# Altium footprint library S6LDC115-2003-1-1.PcbLib: 17 footprints (part 1 of 2)
Each footprint in its own frame and in the unit in brackets; x right, y up, seen from the top. Pads: shape width x height; smd on the part's side, far side on the other; paste and mask are expansions set on the pad; w line width, h text height; cw(c..) or ccw(c..) is an arc to the next point about the centre after c.
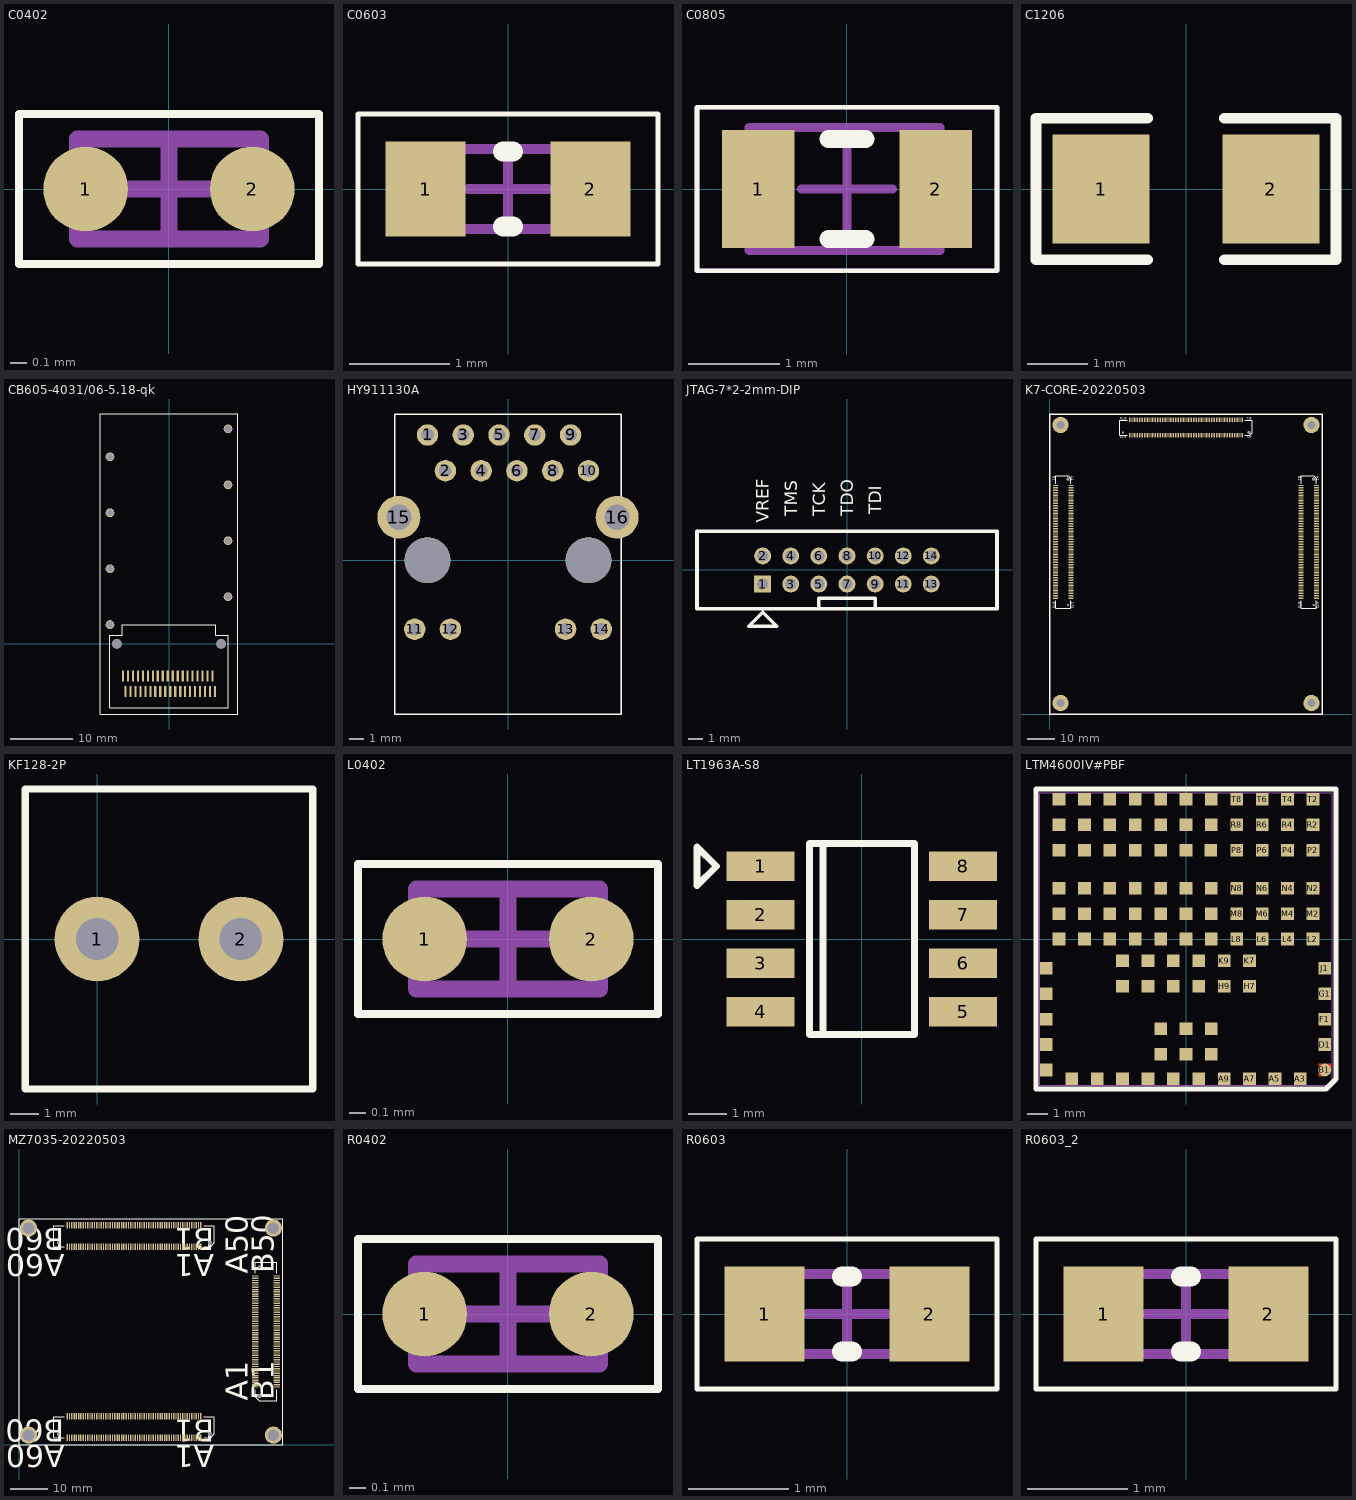
[diagram p0: the footprints below, top view; thin cyan lines are the x and y axes]

## C0402 [mil]
height 11.81
pads (2):
  round 20 smd: 1(-19.68,0) 2(19.68,0)
Top Overlay:
  lines w1.97: -35.43,-17.72 35.43,-17.72 35.43,17.72 -35.43,17.72 -35.43,-17.72
Mechanical 13:
  lines w3.94: -21.65,-11.81 -21.65,11.81 21.65,11.81 21.65,-11.81 -21.65,-11.81
Mechanical 15:
  lines w1.97: -35.43,-17.72 35.43,-17.72 35.43,17.72 -35.43,17.72 -35.43,-17.72
  lines w3.94: -9.84,0 9.84,0 ; 0,-9.84 0,9.84
3D body "C 0402.STEP": height 20.68, standoff 0.21, extent -19.68,-10.23 19.69,10.24

## C0603 [mm]
height 1.2
pads (2):
  rect 0.8x0.95 smd: 1(-0.825,0) 2(0.825,0)
Top Overlay:
  lines w0.05: -1.5,-0.75 -1.5,0.75 1.5,0.75 1.5,-0.75 -1.5,-0.75
  lines w0.2: -0.05,-0.375 0.05,-0.375 ; -0.05,0.375 0.05,0.375
Mechanical 13:
  lines w0.1: -0.8,-0.4 -0.8,0.4 0.8,0.4 0.8,-0.4 -0.8,-0.4
Mechanical 15:
  lines w0.1: -0.4,0 0.4,0 ; 0,-0.4 0,0.4
3D body "C 0603.STEP": height 0.81, standoff -0.01, extent -0.8,-0.41 0.8,0.41

## C0805 [mm]
height 0.5
pads (2):
  rect 0.8x1.3 smd: 1(-0.975,0) 2(0.975,0)
Top Overlay:
  lines w0.05: -1.65,-0.9 1.65,-0.9 1.65,0.9 -1.65,0.9 -1.65,-0.9
  lines w0.2: -0.2,-0.55 0.2,-0.55 ; -0.2,0.55 0.2,0.55
Mechanical 13:
  lines w0.1: -1.075,-0.675 -1.075,0.675 1.025,0.675 1.025,-0.675 -1.075,-0.675
Mechanical 15:
  lines w0.05: -1.65,-0.9 1.65,-0.9 1.65,0.9 -1.65,0.9 -1.65,-0.9
  lines w0.1: -0.5,0 0.5,0 ; 0,-0.5 0,0.5
3D body "C 0805.STEP": height 0.51, standoff -0.01, extent -1,-0.61 1,0.61

## C1206 [mm]
pads (2):
  rect 1.6x1.8 smd: 1(-1.4,0) 2(1.4,0)
Top Overlay:
  lines w0.178: -0.635,-1.168 -2.476,-1.168 -2.476,1.168 -0.635,1.168 ; 0.635,-1.168 2.476,-1.168 2.476,1.168 0.635,1.168
3D body "C 1206.STEP": height 1.21, standoff -0.01, extent -1.6,-0.81 1.6,0.81

## CB605-4031/06-5.18-qk [mm]
pads (48):
  rect 0.35x1.8 smd: 1(7,-5.18) 2(6.2,-5.18) 3(5.4,-5.18) 4(4.6,-5.18) 5(3.8,-5.18) 6(3,-5.18) 7(2.2,-5.18) 8(1.4,-5.18) 9(0.6,-5.18) 10(-0.2,-5.18) 11(-1,-5.18) 12(-1.8,-5.18) 13(-2.6,-5.18) 14(-3.4,-5.18) 15(-4.2,-5.18) 16(-5,-5.18) 17(-5.8,-5.18) 18(-6.6,-5.18) 19(-7.4,-5.18) 20(-7,-7.69) 21(-6.2,-7.69) 22(-5.4,-7.69) 23(-4.6,-7.69) 24(-3.8,-7.69) 25(-3,-7.69) 26(-2.2,-7.69) 27(-1.4,-7.69) 28(-0.6,-7.69) 29(0.2,-7.69) 30(1,-7.69) 31(1.8,-7.69) 32(2.6,-7.69) 33(3.4,-7.69) 34(4.2,-7.69) 35(5,-7.69) 36(5.8,-7.69) 37(6.6,-7.69) 38(7.4,-7.69)
  round 1.4 hole 1.1: 39(-9.5,3.1) 39(-9.5,12.1) 39(-9.5,21.1) 39(-9.5,30.1) 39(9.5,7.6) 39(9.5,16.6) 39(9.5,25.6) 39(9.5,34.6)
  round 1.55 hole 1.55: ""(-8.4,0) ""(8.4,0)
Top Overlay:
  lines w0.1: -11.075,-11.3 11.075,-11.3 11.075,37 -11.075,37 -11.075,-11.3 ; -9.5,-10.3 9.5,-10.3 9.5,1.36 7.51,1.36 7.51,3.05 -7.51,3.05 -7.51,1.36 -9.5,1.36 -9.5,-10.3

## HY911130A [mil]
pads (18):
  round 60 hole 35: 1(-225,350) 2(-175,250) 3(-125,350) 4(-75,250) 5(-25,350) 6(25,250) 7(75,350) 8(125,250) 9(175,350) 10(225,250) 11(-260.83,-192.91) 12(-160.83,-192.91) 13(160.83,-192.91) 14(260.83,-192.91)
  round 120 hole 70: 15(-304.92,120.08) 16(304.92,120.08)
  round 128 hole 128: " "(-225,0) " "(225,0)
Top Overlay:
  lines w3.94: -316.93,-429.92 316.93,-429.92 316.93,408.66 -316.93,408.66 -316.93,-429.92
Mechanical 6:
  text "9" at 175,324.9 h30
  text "8" at 125,224.9 h30
  text "6" at 25,224.9 h30
  text "5" at -25,324.9 h30
  text "7" at 75,324.9 h30
  text "4" at -75,224.9 h30
  text "3" at -125,324.9 h30
  text "2" at -175,224.9 h30
  text "16" at 304.92,82.38 h30
  text "15" at -304.92,82.38 h30
  text "1" at -225,324.9 h30
Mechanical 7:
  lines w1: -316.93,-429.92 316.93,-429.92 316.93,408.66 -316.93,408.66 -316.93,-429.92

## JTAG-7*2-2mm-DIP [mm]
pads (14):
  rect 1.2x1.2 hole 0.8: 1(-6,-1)
  round 1.2 hole 0.8: 2(-6,1) 3(-4,-1) 4(-4,1) 5(-2,-1) 6(-2,1) 7(0,-1) 8(0,1) 9(2,-1) 10(2,1) 11(4,-1) 12(4,1) 13(6,-1) 14(6,1)
Top Overlay:
  lines w0.254: -2,-2.75 -2,-2 2,-2 2,-2.75 ; -10.67,-2.75 10.67,-2.75 10.67,2.75 -10.67,2.75 -10.67,-2.75 ; -7,-4 -6,-3 -5,-4 -7,-4
  text "TDI" at 2.444,3.963 h0.89
  text "TDO" at 0.444,3.815 h0.89
  text "TCK" at -1.556,3.815 h0.89
  text "TMS" at -3.556,3.815 h0.89
  text "VREF" at -5.556,3.371 h0.89

## K7-CORE-20220503 [mm]
pads (430):
  rect 0.35x1.7 smd mask+0.15: AS1(70.7,102.15) AS2(70.1,102.15) AS3(69.5,102.15) AS4(68.9,102.15) AS5(68.3,102.15) AS6(67.7,102.15) AS7(67.1,102.15) AS8(66.5,102.15) AS9(65.9,102.15) AS10(65.3,102.15) AS11(64.7,102.15) AS12(64.1,102.15) AS13(63.5,102.15) AS14(62.9,102.15) AS15(62.3,102.15) AS16(61.7,102.15) AS17(61.1,102.15) AS18(60.5,102.15) AS19(59.9,102.15) AS20(59.3,102.15) AS21(58.7,102.15) AS22(58.1,102.15) AS23(57.5,102.15) AS24(56.9,102.15) AS25(56.3,102.15) AS26(55.7,102.15) AS27(55.1,102.15) AS28(54.5,102.15) AS29(53.9,102.15) AS30(53.3,102.15) AS31(52.7,102.15) AS32(52.1,102.15) AS33(51.5,102.15) AS34(50.9,102.15) AS35(50.3,102.15) AS36(49.7,102.15) AS37(49.1,102.15) AS38(48.5,102.15) AS39(47.9,102.15) AS40(47.3,102.15) AS41(46.7,102.15) AS42(46.1,102.15) AS43(45.5,102.15) AS44(44.9,102.15) AS45(44.3,102.15) AS46(43.7,102.15) AS47(43.1,102.15) AS48(42.5,102.15) AS49(41.9,102.15) AS50(41.3,102.15) AS51(40.7,102.15) AS52(40.1,102.15) AS53(39.5,102.15) AS54(38.9,102.15) AS55(38.3,102.15) AS56(37.7,102.15) AS57(37.1,102.15) AS58(36.5,102.15) AS59(35.9,102.15) AS60(35.3,102.15) AS61(34.7,102.15) AS62(34.1,102.15) AS63(33.5,102.15) AS64(32.9,102.15) AS65(32.3,102.15) AS66(31.7,102.15) AS67(31.1,102.15) AS68(30.5,102.15) AS69(29.9,102.15) AS70(29.3,102.15) BS1(70.7,107.85) BS2(70.1,107.85) BS3(69.5,107.85) BS4(68.9,107.85) BS5(68.3,107.85) BS6(67.7,107.85) BS7(67.1,107.85) BS8(66.5,107.85) BS9(65.9,107.85) BS10(65.3,107.85) BS11(64.7,107.85) BS12(64.1,107.85) BS13(63.5,107.85) BS14(62.9,107.85) BS15(62.3,107.85) BS16(61.7,107.85) BS17(61.1,107.85) BS18(60.5,107.85) BS19(59.9,107.85) BS20(59.3,107.85) BS21(58.7,107.85) BS22(58.1,107.85) BS23(57.5,107.85) BS24(56.9,107.85) BS25(56.3,107.85) BS26(55.7,107.85) BS27(55.1,107.85) BS28(54.5,107.85) BS29(53.9,107.85) BS30(53.3,107.85) BS31(52.7,107.85) BS32(52.1,107.85) BS33(51.5,107.85) BS34(50.9,107.85) BS35(50.3,107.85) BS36(49.7,107.85) BS37(49.1,107.85) BS38(48.5,107.85) BS39(47.9,107.85) BS40(47.3,107.85) BS41(46.7,107.85) BS42(46.1,107.85) BS43(45.5,107.85) BS44(44.9,107.85) BS45(44.3,107.85) BS46(43.7,107.85) BS47(43.1,107.85) BS48(42.5,107.85) BS49(41.9,107.85) BS50(41.3,107.85) BS51(40.7,107.85) BS52(40.1,107.85) BS53(39.5,107.85) BS54(38.9,107.85) BS55(38.3,107.85) BS56(37.7,107.85) BS57(37.1,107.85) BS58(36.5,107.85) BS59(35.9,107.85) BS60(35.3,107.85) BS61(34.7,107.85) BS62(34.1,107.85) BS63(33.5,107.85) BS64(32.9,107.85) BS65(32.3,107.85) BS66(31.7,107.85) BS67(31.1,107.85) BS68(30.5,107.85) BS69(29.9,107.85) BS70(29.3,107.85)
  rect 1.7x0.35 smd mask+0.15: AY1(97.85,83.7) AY2(97.85,83.1) AY3(97.85,82.5) AY4(97.85,81.9) AY5(97.85,81.3) AY6(97.85,80.7) AY7(97.85,80.1) AY8(97.85,79.5) AY9(97.85,78.9) AY10(97.85,78.3) AY11(97.85,77.7) AY12(97.85,77.1) AY13(97.85,76.5) AY14(97.85,75.9) AY15(97.85,75.3) AY16(97.85,74.7) AY17(97.85,74.1) AY18(97.85,73.5) AY19(97.85,72.9) AY20(97.85,72.3) AY21(97.85,71.7) AY22(97.85,71.1) AY23(97.85,70.5) AY24(97.85,69.9) AY25(97.85,69.3) AY26(97.85,68.7) AY27(97.85,68.1) AY28(97.85,67.5) AY29(97.85,66.9) AY30(97.85,66.3) AY31(97.85,65.7) AY32(97.85,65.1) AY33(97.85,64.5) AY34(97.85,63.9) AY35(97.85,63.3) AY36(97.85,62.7) AY37(97.85,62.1) AY38(97.85,61.5) AY39(97.85,60.9) AY40(97.85,60.3) AY41(97.85,59.7) AY42(97.85,59.1) AY43(97.85,58.5) AY44(97.85,57.9) AY45(97.85,57.3) AY46(97.85,56.7) AY47(97.85,56.1) AY48(97.85,55.5) AY49(97.85,54.9) AY50(97.85,54.3) AY51(97.85,53.7) AY52(97.85,53.1) AY53(97.85,52.5) AY54(97.85,51.9) AY55(97.85,51.3) AY56(97.85,50.7) AY57(97.85,50.1) AY58(97.85,49.5) AY59(97.85,48.9) AY60(97.85,48.3) AY61(97.85,47.7) AY62(97.85,47.1) AY63(97.85,46.5) AY64(97.85,45.9) AY65(97.85,45.3) AY66(97.85,44.7) AY67(97.85,44.1) AY68(97.85,43.5) AY69(97.85,42.9) AY70(97.85,42.3) AZ1(7.85,83.7) AZ2(7.85,83.1) AZ3(7.85,82.5) AZ4(7.85,81.9) AZ5(7.85,81.3) AZ6(7.85,80.7) AZ7(7.85,80.1) AZ8(7.85,79.5) AZ9(7.85,78.9) AZ10(7.85,78.3) AZ11(7.85,77.7) AZ12(7.85,77.1) AZ13(7.85,76.5) AZ14(7.85,75.9) AZ15(7.85,75.3) AZ16(7.85,74.7) AZ17(7.85,74.1) AZ18(7.85,73.5) AZ19(7.85,72.9) AZ20(7.85,72.3) AZ21(7.85,71.7) AZ22(7.85,71.1) AZ23(7.85,70.5) AZ24(7.85,69.9) AZ25(7.85,69.3) AZ26(7.85,68.7) AZ27(7.85,68.1) AZ28(7.85,67.5) AZ29(7.85,66.9) AZ30(7.85,66.3) AZ31(7.85,65.7) AZ32(7.85,65.1) AZ33(7.85,64.5) AZ34(7.85,63.9) AZ35(7.85,63.3) AZ36(7.85,62.7) AZ37(7.85,62.1) AZ38(7.85,61.5) AZ39(7.85,60.9) AZ40(7.85,60.3) AZ41(7.85,59.7) AZ42(7.85,59.1) AZ43(7.85,58.5) AZ44(7.85,57.9) AZ45(7.85,57.3) AZ46(7.85,56.7) AZ47(7.85,56.1) AZ48(7.85,55.5) AZ49(7.85,54.9) AZ50(7.85,54.3) AZ51(7.85,53.7) AZ52(7.85,53.1) AZ53(7.85,52.5) AZ54(7.85,51.9) AZ55(7.85,51.3) AZ56(7.85,50.7) AZ57(7.85,50.1) AZ58(7.85,49.5) AZ59(7.85,48.9) AZ60(7.85,48.3) AZ61(7.85,47.7) AZ62(7.85,47.1) AZ63(7.85,46.5) AZ64(7.85,45.9) AZ65(7.85,45.3) AZ66(7.85,44.7) AZ67(7.85,44.1) AZ68(7.85,43.5) AZ69(7.85,42.9) AZ70(7.85,42.3) BY1(92.15,83.7) BY2(92.15,83.1) BY3(92.15,82.5) BY4(92.15,81.9) BY5(92.15,81.3) BY6(92.15,80.7) BY7(92.15,80.1) BY8(92.15,79.5) BY9(92.15,78.9) BY10(92.15,78.3) BY11(92.15,77.7) BY12(92.15,77.1) BY13(92.15,76.5) BY14(92.15,75.9) BY15(92.15,75.3) BY16(92.15,74.7) BY17(92.15,74.1) BY18(92.15,73.5) BY19(92.15,72.9) BY20(92.15,72.3) BY21(92.15,71.7) BY22(92.15,71.1) BY23(92.15,70.5) BY24(92.15,69.9) BY25(92.15,69.3) BY26(92.15,68.7) BY27(92.15,68.1) BY28(92.15,67.5) BY29(92.15,66.9) BY30(92.15,66.3) BY31(92.15,65.7) BY32(92.15,65.1) BY33(92.15,64.5) BY34(92.15,63.9) BY35(92.15,63.3) BY36(92.15,62.7) BY37(92.15,62.1) BY38(92.15,61.5) BY39(92.15,60.9) BY40(92.15,60.3) BY41(92.15,59.7) BY42(92.15,59.1) BY43(92.15,58.5) BY44(92.15,57.9) BY45(92.15,57.3) BY46(92.15,56.7) BY47(92.15,56.1) BY48(92.15,55.5) BY49(92.15,54.9) BY50(92.15,54.3) BY51(92.15,53.7) BY52(92.15,53.1) BY53(92.15,52.5) BY54(92.15,51.9) BY55(92.15,51.3) BY56(92.15,50.7) BY57(92.15,50.1) BY58(92.15,49.5) BY59(92.15,48.9) BY60(92.15,48.3) BY61(92.15,47.7) BY62(92.15,47.1) BY63(92.15,46.5) BY64(92.15,45.9) BY65(92.15,45.3) BY66(92.15,44.7) BY67(92.15,44.1) BY68(92.15,43.5) BY69(92.15,42.9) BY70(92.15,42.3) BZ1(2.15,83.7) BZ2(2.15,83.1) BZ3(2.15,82.5) BZ4(2.15,81.9) BZ5(2.15,81.3) BZ6(2.15,80.7) BZ7(2.15,80.1) BZ8(2.15,79.5) BZ9(2.15,78.9) BZ10(2.15,78.3) BZ11(2.15,77.7) BZ12(2.15,77.1) BZ13(2.15,76.5) BZ14(2.15,75.9) BZ15(2.15,75.3) BZ16(2.15,74.7) BZ17(2.15,74.1) BZ18(2.15,73.5) BZ19(2.15,72.9) BZ20(2.15,72.3) BZ21(2.15,71.7) BZ22(2.15,71.1) BZ23(2.15,70.5) BZ24(2.15,69.9) BZ25(2.15,69.3) BZ26(2.15,68.7) BZ27(2.15,68.1) BZ28(2.15,67.5) BZ29(2.15,66.9) BZ30(2.15,66.3) BZ31(2.15,65.7) BZ32(2.15,65.1) BZ33(2.15,64.5) BZ34(2.15,63.9) BZ35(2.15,63.3) BZ36(2.15,62.7) BZ37(2.15,62.1) BZ38(2.15,61.5) BZ39(2.15,60.9) BZ40(2.15,60.3) BZ41(2.15,59.7) BZ42(2.15,59.1) BZ43(2.15,58.5) BZ44(2.15,57.9) BZ45(2.15,57.3) BZ46(2.15,56.7) BZ47(2.15,56.1) BZ48(2.15,55.5) BZ49(2.15,54.9) BZ50(2.15,54.3) BZ51(2.15,53.7) BZ52(2.15,53.1) BZ53(2.15,52.5) BZ54(2.15,51.9) BZ55(2.15,51.3) BZ56(2.15,50.7) BZ57(2.15,50.1) BZ58(2.15,49.5) BZ59(2.15,48.9) BZ60(2.15,48.3) BZ61(2.15,47.7) BZ62(2.15,47.1) BZ63(2.15,46.5) BZ64(2.15,45.9) BZ65(2.15,45.3) BZ66(2.15,44.7) BZ67(2.15,44.1) BZ68(2.15,43.5) BZ69(2.15,42.9) BZ70(2.15,42.3)
  round 6 hole 3: ""(4,4) ""(4,106) ""(96,4) ""(96,106)
  round 0.7 hole 0.7: ""(6.8,39.9) ""(26.9,103.2) ""(96.8,39.9)
  round 1.1 hole 1.1: ""(6.8,86.1) ""(73.1,103.2) ""(96.8,86.1)
Top Overlay:
  lines w0.254: 2.2,41.5 2.2,38.7 7.8,38.7 7.8,41.5 ; 2.2,84.5 2.2,87.3 6.9,87.3 7.8,86.4 7.8,84.5 ; 28.5,102.2 25.7,102.2 25.7,107.8 28.5,107.8 ; 71.5,102.2 73.4,102.2 74.3,103.1 74.3,107.8 71.5,107.8 ; 92.2,41.5 92.2,38.7 97.8,38.7 97.8,41.5 ; 92.2,84.5 92.2,87.3 96.9,87.3 97.8,86.4 97.8,84.5
  lines w0.5: 0,0 0,110 100,110 100,0 0,0
  text "A1" at 7.952,87.148 h0.89
  text "B1" at 1.159,87.148 h0.89
  text "B70" at 1.159,41.222 h0.89
  text "A70" at 7.952,41.222 h0.89
  text "A1" at 97.952,87.148 h0.89
  text "B1" at 91.159,87.148 h0.89
  text "B70" at 91.159,41.222 h0.89
  text "A70" at 97.952,41.222 h0.89
  text "A1" at 74.148,102.048 h0.89
  text "B1" at 74.148,108.841 h0.89
  text "B70" at 28.222,108.841 h0.89
  text "A70" at 28.222,102.048 h0.89

## KF128-2P [mm]
pads (2):
  round 3 hole 1.5: 1(0,0) 2(5.08,0)
Top Overlay:
  lines w0.254: -2.54,-5.3 -2.54,0 -2.54,5.3 7.62,5.3 7.62,-5.3 -2.54,-5.3

## L0402 [mil]
height 11.81
pads (2):
  round 20 smd: 1(-19.68,0) 2(19.68,0)
Top Overlay:
  lines w1.97: -35.43,-17.72 -35.43,17.72 35.43,17.72 35.43,-17.72 -35.43,-17.72
Mechanical 13:
  lines w3.94: -21.65,-11.81 21.65,-11.81 21.65,11.81 -21.65,11.81 -21.65,-11.81
Mechanical 15:
  lines w1.97: -35.43,-17.72 -35.43,17.72 35.43,17.72 35.43,-17.72 -35.43,-17.72
  lines w3.94: -9.84,0 9.84,0 ; 0,-9.84 0,9.84
3D body "0402.STEP": height 19.68, standoff -0.11, extent -19.69,-9.84 19.69,9.84

## LT1963A-S8 [mil]
pads (8):
  rect 70x30 smd: 1(-104.33,75) 2(-104.33,25) 3(-104.33,-25) 4(-104.33,-75) 5(104.33,-75) 6(104.33,-25) 7(104.33,25) 8(104.33,75)
Top Overlay:
  lines w7: -40,-98.43 -40,98.43 ; -170,55 -150,75 -170,95 -170,55 ; -54.02,-98.43 -54.02,98.43 54.2,98.43 54.2,-98.43 -54.02,-98.43

## LTM4600IV#PBF [mm]
pads (104):
  rect 0.635x0.635 smd: A3(5.716,-6.989) A5(4.446,-6.989) A7(3.176,-6.989) A9(1.906,-6.989) A11(0.636,-6.989) A13(-0.634,-6.989) A15(-1.904,-6.989) A17(-3.174,-6.989) A19(-4.444,-6.989) A21(-5.714,-6.989) B23(-6.987,-6.548) C10(1.27,-5.765) C12(0,-5.765) C14(-1.27,-5.765) D1(6.942,-5.278) D23(-6.987,-5.278) E10(1.27,-4.495) E12(0,-4.495) E14(-1.27,-4.495) F1(6.942,-4.008) F23(-6.987,-4.008) G1(6.942,-2.738) G23(-6.987,-2.738) H7(3.176,-2.36) H9(1.906,-2.36) H11(0.636,-2.36) H13(-0.634,-2.36) H15(-1.904,-2.36) H17(-3.174,-2.36) J1(6.942,-1.468) J23(-6.987,-1.468) K7(3.176,-1.09) K9(1.906,-1.09) K11(0.636,-1.09) K13(-0.634,-1.09) K15(-1.904,-1.09) K17(-3.174,-1.09) L2(6.35,0) L4(5.08,0) L6(3.81,0) L8(2.54,0) L10(1.27,0) L12(0,0) L14(-1.27,0) L16(-2.54,0) L18(-3.81,0) L20(-5.08,0) L22(-6.35,0) M2(6.35,1.27) M4(5.08,1.27) M6(3.81,1.27) M8(2.54,1.27) M10(1.27,1.27) M12(0,1.27) M14(-1.27,1.27) M16(-2.54,1.27) M18(-3.81,1.27) M20(-5.08,1.27) M22(-6.35,1.27) N2(6.35,2.54) N4(5.08,2.54) N6(3.81,2.54) N8(2.54,2.54) N10(1.27,2.54) N12(0,2.54) N14(-1.27,2.54) N16(-2.54,2.54) N18(-3.81,2.54) N20(-5.08,2.54) N22(-6.35,2.54) P2(6.35,4.445) P4(5.08,4.445) P6(3.81,4.445) P8(2.54,4.445) P10(1.24,4.445) P12(0,4.445) P14(-1.27,4.445) P16(-2.54,4.445) P18(-3.81,4.445) P20(-5.08,4.445) P22(-6.35,4.445) R2(6.35,5.715) R4(5.08,5.715) R6(3.81,5.715) R8(2.54,5.715) R10(1.27,5.715) R12(0,5.715) R14(-1.27,5.715) R16(-2.54,5.715) R18(-3.81,5.715) R20(-5.08,5.715) R22(-6.35,5.715) T2(6.35,6.985) T4(5.08,6.985) T6(3.81,6.985) T8(2.54,6.985) T10(1.27,6.985) T12(0,6.985) T14(-1.27,6.985) T16(-2.54,6.985) T18(-3.81,6.985) T20(-5.08,6.985) T22(-6.35,6.985)
  round 0.635 smd: B1(6.942,-6.548)
Top Layer:
  region: 6.625,-6.23 7.26,-6.23 7.26,-6.615 7.01,-6.865 6.625,-6.865
Top Overlay:
  lines w0.254: -7.5,-7.5 7,-7.5 7.5,-7 7.5,7.5 -7.5,7.5 -7.5,-7.5
Mechanical 16:
  lines w0.005: -7.31,-7.31 7.31,-7.31 7.31,7.31 -7.31,7.31 -7.31,-7.31

## MZ7035-20220503 [mm]
pads (350):
  rect 1.7x0.35 smd: AS1(62.633,15.329) AS2(62.633,15.929) AS3(62.633,16.529) AS4(62.633,17.129) AS5(62.633,17.729) AS6(62.633,18.329) AS7(62.633,18.929) AS8(62.633,19.529) AS9(62.633,20.129) AS10(62.633,20.729) AS11(62.633,21.329) AS12(62.633,21.929) AS13(62.633,22.529) AS14(62.633,23.129) AS15(62.633,23.729) AS16(62.633,24.329) AS17(62.633,24.929) AS18(62.633,25.529) AS19(62.633,26.129) AS20(62.633,26.729) AS21(62.633,27.329) AS22(62.633,27.929) AS23(62.633,28.529) AS24(62.633,29.129) AS25(62.633,29.729) AS26(62.633,30.329) AS27(62.633,30.929) AS28(62.633,31.529) AS29(62.633,32.129) AS30(62.633,32.729) AS31(62.633,33.329) AS32(62.633,33.929) AS33(62.633,34.529) AS34(62.633,35.129) AS35(62.633,35.729) AS36(62.633,36.329) AS37(62.633,36.929) AS38(62.633,37.529) AS39(62.633,38.129) AS40(62.633,38.729) AS41(62.633,39.329) AS42(62.633,39.929) AS43(62.633,40.529) AS44(62.633,41.129) AS45(62.633,41.729) AS46(62.633,42.329) AS47(62.633,42.929) AS48(62.633,43.529) AS49(62.633,44.129) AS50(62.633,44.729) BS1(68.333,15.329) BS2(68.333,15.929) BS3(68.333,16.529) BS4(68.333,17.129) BS5(68.333,17.729) BS6(68.333,18.329) BS7(68.333,18.929) BS8(68.333,19.529) BS9(68.333,20.129) BS10(68.333,20.729) BS11(68.333,21.329) BS12(68.333,21.929) BS13(68.333,22.529) BS14(68.333,23.129) BS15(68.333,23.729) BS16(68.333,24.329) BS17(68.333,24.929) BS18(68.333,25.529) BS19(68.333,26.129) BS20(68.333,26.729) BS21(68.333,27.329) BS22(68.333,27.929) BS23(68.333,28.529) BS24(68.333,29.129) BS25(68.333,29.729) BS26(68.333,30.329) BS27(68.333,30.929) BS28(68.333,31.529) BS29(68.333,32.129) BS30(68.333,32.729) BS31(68.333,33.329) BS32(68.333,33.929) BS33(68.333,34.529) BS34(68.333,35.129) BS35(68.333,35.729) BS36(68.333,36.329) BS37(68.333,36.929) BS38(68.333,37.529) BS39(68.333,38.129) BS40(68.333,38.729) BS41(68.333,39.329) BS42(68.333,39.929) BS43(68.333,40.529) BS44(68.333,41.129) BS45(68.333,41.729) BS46(68.333,42.329) BS47(68.333,42.929) BS48(68.333,43.529) BS49(68.333,44.129) BS50(68.333,44.729)
  rect 0.35x1.7 smd: AY1(48.209,1.806) AY2(47.609,1.806) AY3(47.009,1.806) AY4(46.409,1.806) AY5(45.809,1.806) AY6(45.209,1.806) AY7(44.609,1.806) AY8(44.009,1.806) AY9(43.409,1.806) AY10(42.809,1.806) AY11(42.209,1.806) AY12(41.609,1.806) AY13(41.009,1.806) AY14(40.409,1.806) AY15(39.809,1.806) AY16(39.209,1.806) AY17(38.609,1.806) AY18(38.009,1.806) AY19(37.409,1.806) AY20(36.809,1.806) AY21(36.209,1.806) AY22(35.609,1.806) AY23(35.009,1.806) AY24(34.409,1.806) AY25(33.809,1.806) AY26(33.209,1.806) AY27(32.609,1.806) AY28(32.009,1.806) AY29(31.409,1.806) AY30(30.809,1.806) AY31(30.209,1.806) AY32(29.609,1.806) AY33(29.009,1.806) AY34(28.409,1.806) AY35(27.809,1.806) AY36(27.209,1.806) AY37(26.609,1.806) AY38(26.009,1.806) AY39(25.409,1.806) AY40(24.809,1.806) AY41(24.209,1.806) AY42(23.609,1.806) AY43(23.009,1.806) AY44(22.409,1.806) AY45(21.809,1.806) AY46(21.209,1.806) AY47(20.609,1.806) AY48(20.009,1.806) AY49(19.409,1.806) AY50(18.809,1.806) AY51(18.209,1.806) AY52(17.609,1.806) AY53(17.009,1.806) AY54(16.409,1.806) AY55(15.809,1.806) AY56(15.209,1.806) AY57(14.609,1.806) AY58(14.009,1.806) AY59(13.409,1.806) AY60(12.809,1.806) AZ1(48.209,52.464) AZ2(47.609,52.464) AZ3(47.009,52.464) AZ4(46.409,52.464) AZ5(45.809,52.464) AZ6(45.209,52.464) AZ7(44.609,52.464) AZ8(44.009,52.464) AZ9(43.409,52.464) AZ10(42.809,52.464) AZ11(42.209,52.464) AZ12(41.609,52.464) AZ13(41.009,52.464) AZ14(40.409,52.464) AZ15(39.809,52.464) AZ16(39.209,52.464) AZ17(38.609,52.464) AZ18(38.009,52.464) AZ19(37.409,52.464) AZ20(36.809,52.464) AZ21(36.209,52.464) AZ22(35.609,52.464) AZ23(35.009,52.464) AZ24(34.409,52.464) AZ25(33.809,52.464) AZ26(33.209,52.464) AZ27(32.609,52.464) AZ28(32.009,52.464) AZ29(31.409,52.464) AZ30(30.809,52.464) AZ31(30.209,52.464) AZ32(29.609,52.464) AZ33(29.009,52.464) AZ34(28.409,52.464) AZ35(27.809,52.464) AZ36(27.209,52.464) AZ37(26.609,52.464) AZ38(26.009,52.464) AZ39(25.409,52.464) AZ40(24.809,52.464) AZ41(24.209,52.464) AZ42(23.609,52.464) AZ43(23.009,52.464) AZ44(22.409,52.464) AZ45(21.809,52.464) AZ46(21.209,52.464) AZ47(20.609,52.464) AZ48(20.009,52.464) AZ49(19.409,52.464) AZ50(18.809,52.464) AZ51(18.209,52.464) AZ52(17.609,52.464) AZ53(17.009,52.464) AZ54(16.409,52.464) AZ55(15.809,52.464) AZ56(15.209,52.464) AZ57(14.609,52.464) AZ58(14.009,52.464) AZ59(13.409,52.464) AZ60(12.809,52.464) BY1(48.209,7.506) BY2(47.609,7.506) BY3(47.009,7.506) BY4(46.409,7.506) BY5(45.809,7.506) BY6(45.209,7.506) BY7(44.609,7.506) BY8(44.009,7.506) BY9(43.409,7.506) BY10(42.809,7.506) BY11(42.209,7.506) BY12(41.609,7.506) BY13(41.009,7.506) BY14(40.409,7.506) BY15(39.809,7.506) BY16(39.209,7.506) BY17(38.609,7.506) BY18(38.009,7.506) BY19(37.409,7.506) BY20(36.809,7.506) BY21(36.209,7.506) BY22(35.609,7.506) BY23(35.009,7.506) BY24(34.409,7.506) BY25(33.809,7.506) BY26(33.209,7.506) BY27(32.609,7.506) BY28(32.009,7.506) BY29(31.409,7.506) BY30(30.809,7.506) BY31(30.209,7.506) BY32(29.609,7.506) BY33(29.009,7.506) BY34(28.409,7.506) BY35(27.809,7.506) BY36(27.209,7.506) BY37(26.609,7.506) BY38(26.009,7.506) BY39(25.409,7.506) BY40(24.809,7.506) BY41(24.209,7.506) BY42(23.609,7.506) BY43(23.009,7.506) BY44(22.409,7.506) BY45(21.809,7.506) BY46(21.209,7.506) BY47(20.609,7.506) BY48(20.009,7.506) BY49(19.409,7.506) BY50(18.809,7.506) BY51(18.209,7.506) BY52(17.609,7.506) BY53(17.009,7.506) BY54(16.409,7.506) BY55(15.809,7.506) BY56(15.209,7.506) BY57(14.609,7.506) BY58(14.009,7.506) BY59(13.409,7.506) BY60(12.809,7.506) BZ1(48.209,58.164) BZ2(47.609,58.164) BZ3(47.009,58.164) BZ4(46.409,58.164) BZ5(45.809,58.164) BZ6(45.209,58.164) BZ7(44.609,58.164) BZ8(44.009,58.164) BZ9(43.409,58.164) BZ10(42.809,58.164) BZ11(42.209,58.164) BZ12(41.609,58.164) BZ13(41.009,58.164) BZ14(40.409,58.164) BZ15(39.809,58.164) BZ16(39.209,58.164) BZ17(38.609,58.164) BZ18(38.009,58.164) BZ19(37.409,58.164) BZ20(36.809,58.164) BZ21(36.209,58.164) BZ22(35.609,58.164) BZ23(35.009,58.164) BZ24(34.409,58.164) BZ25(33.809,58.164) BZ26(33.209,58.164) BZ27(32.609,58.164) BZ28(32.009,58.164) BZ29(31.409,58.164) BZ30(30.809,58.164) BZ31(30.209,58.164) BZ32(29.609,58.164) BZ33(29.009,58.164) BZ34(28.409,58.164) BZ35(27.809,58.164) BZ36(27.209,58.164) BZ37(26.609,58.164) BZ38(26.009,58.164) BZ39(25.409,58.164) BZ40(24.809,58.164) BZ41(24.209,58.164) BZ42(23.609,58.164) BZ43(23.009,58.164) BZ44(22.409,58.164) BZ45(21.809,58.164) BZ46(21.209,58.164) BZ47(20.609,58.164) BZ48(20.009,58.164) BZ49(19.409,58.164) BZ50(18.809,58.164) BZ51(18.209,58.164) BZ52(17.609,58.164) BZ53(17.009,58.164) BZ54(16.409,58.164) BZ55(15.809,58.164) BZ56(15.209,58.164) BZ57(14.609,58.164) BZ58(14.009,58.164) BZ59(13.409,58.164) BZ60(12.809,58.164)
  round 4.57 hole 3.1: ""(2.54,2.54) ""(2.54,57.429) ""(67.437,2.54) ""(67.437,57.429)
  round 0.7 hole 0.7: ""(10.409,2.856) ""(10.409,53.514) ""(63.683,47.129)
  round 1.1 hole 1.1: ""(50.609,2.856) ""(50.609,53.514) ""(63.683,12.929)
Top Overlay:
  lines w0.254: 12.009,1.856 9.209,1.856 9.209,7.456 12.009,7.456 ; 12.009,52.514 9.209,52.514 9.209,58.114 12.009,58.114 ; 49.009,1.856 50.809,1.856 51.809,2.856 51.809,7.456 49.009,7.456 ; 49.009,52.514 50.809,52.514 51.809,53.514 51.809,58.114 49.009,58.114 ; 62.683,14.529 62.683,12.729 63.683,11.729 68.283,11.729 68.283,14.529 ; 62.683,45.529 62.683,48.329 68.283,48.329 68.283,45.529 ; 0,0 0,59.969 69.977,59.969 69.977,0 0,0
  text "A1" at 62.683,11.729 h10
  text "B50" at 69.532,45.477 h10
  text "A50" at 62.664,45.357 h10
  text "B1" at 69.495,11.738 h10
  text "A1" at 51.809,52.514 h10
  text "B60" at 12.061,59.326 h10
  text "A60" at 12.181,52.495 h10
  text "B1" at 51.8,59.326 h10
  text "B1" at 51.8,8.669 h10
  text "A60" at 12.181,1.837 h10
  text "B60" at 12.061,8.669 h10
  text "A1" at 51.809,1.856 h10

## R0402 [mil]
height 11.81
pads (2):
  round 20 smd: 1(-19.68,0) 2(19.68,0)
Top Overlay:
  lines w1.97: -35.43,-17.72 -35.43,17.72 35.43,17.72 35.43,-17.72 -35.43,-17.72
Mechanical 13:
  lines w3.94: -21.65,-11.81 21.65,-11.81 21.65,11.81 -21.65,11.81 -21.65,-11.81
Mechanical 15:
  lines w1.97: -35.43,-17.72 -35.43,17.72 35.43,17.72 35.43,-17.72 -35.43,-17.72
  lines w3.94: -9.84,0 9.84,0 ; 0,-9.84 0,9.84
3D body "R0402.STEP": height 13.78, standoff 0, extent -19.69,-9.84 19.69,9.84

## R0603 [mm]
height 1.2
pads (2):
  rect 0.8x0.95 smd: 1(-0.825,0) 2(0.825,0)
Top Overlay:
  lines w0.05: -1.5,-0.75 -1.5,0.75 1.5,0.75 1.5,-0.75 -1.5,-0.75
  lines w0.2: -0.05,-0.375 0.05,-0.375 ; -0.05,0.375 0.05,0.375
Mechanical 13:
  lines w0.1: -0.8,-0.4 -0.8,0.4 0.8,0.4 0.8,-0.4 -0.8,-0.4
Mechanical 15:
  lines w0.1: -0.4,0 0.4,0 ; 0,-0.4 0,0.4
3D body "User Library-R0603-2.STEP": height 0.45, standoff 0, extent -0.8,-0.4 0.8,0.4

## R0603_2 [mm]
pads (2):
  rect 0.8x0.95 smd: 1(-0.825,0) 2(0.825,0)
Top Overlay:
  lines w0.05: -1.5,-0.75 -1.5,0.75 1.5,0.75 1.5,-0.75 -1.5,-0.75
  lines w0.2: -0.05,-0.375 0.05,-0.375 ; -0.05,0.375 0.05,0.375
Mechanical 13:
  lines w0.1: -0.8,-0.4 -0.8,0.4 0.8,0.4 0.8,-0.4 -0.8,-0.4
Mechanical 15:
  lines w0.1: -0.4,0 0.4,0 ; 0,-0.4 0,0.4
3D body "User Library-R0603-2.STEP": height 0.45, standoff 0, extent -0.8,-0.4 0.8,0.4